# Altium footprint library dip_switch_02_706x930x545.PcbLib: 1 footprints
Each footprint in its own frame and in the unit in brackets; x right, y up, seen from the top. Pads: shape width x height; smd on the part's side, far side on the other; paste and mask are expansions set on the pad; w line width, h text height; cw(c..) or ccw(c..) is an arc to the next point about the centre after c.
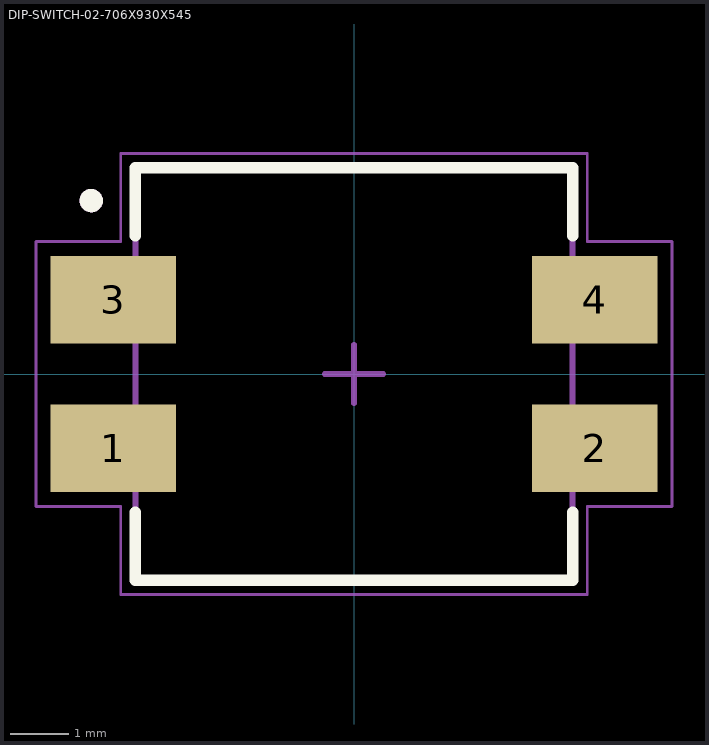
[diagram p0: the footprint, top view; thin cyan lines are the x and y axes]

## DIP-SWITCH-02-706X930X545 [mm]
height 5.45
pads (4):
  rect 2.15x1.5 smd: 1(-4.125,-1.27) 2(4.125,-1.27) 3(-4.125,1.27) 4(4.125,1.27)
Top Overlay:
  circle w0.2: c-4.5,2.97 r0.1
  lines w0.2: -3.745,-2.37 -3.745,-3.53 3.745,-3.53 3.745,-2.37 ; -3.745,2.37 -3.745,3.53 3.745,3.53 3.745,2.37
Mechanical 7:
  text ".Comment" at 1,4.5 h1.2
Mechanical 9:
  text ".Designator" at -0.5,4.5 h1.2
Mechanical 11 (Mech11):
  circle w0.2: c-4.5,2.97 r0.1
  lines w0.1: -3.745,-3.53 3.745,-3.53 3.745,3.53 -3.745,3.53 -3.745,-3.53
Mechanical 15:
  lines w0.05: -5.45,-2.27 -3.995,-2.27 -3.995,-3.78 3.995,-3.78 3.995,-2.27 5.45,-2.27 5.45,2.27 3.995,2.27 3.995,3.78 -3.995,3.78 -3.995,2.27 -5.45,2.27 -5.45,-2.27
  lines w0.1: -0.5,0 0.5,0 ; 0,-0.5 0,0.5
3D body "step_temp.STEP": height 5.44, standoff 0, extent -4.648,-3.53 4.648,3.531